# Altium footprint library PcbLib1.PcbLib: 1 footprints
Each footprint in its own frame and in the unit in brackets; x right, y up, seen from the top. Pads: shape width x height; smd on the part's side, far side on the other; paste and mask are expansions set on the pad; w line width, h text height; cw(c..) or ccw(c..) is an arc to the next point about the centre after c.
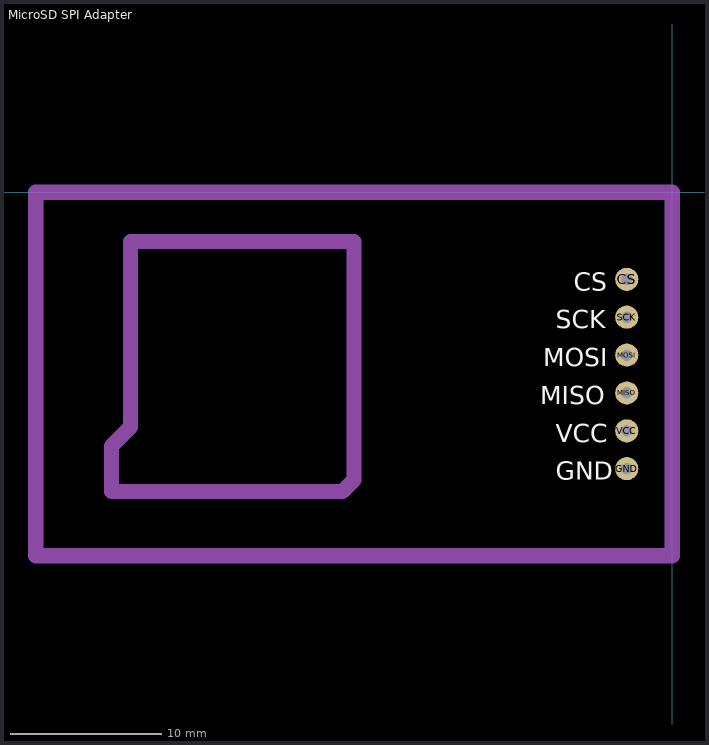
[diagram p0: the footprint, top view; thin cyan lines are the x and y axes]

## MicroSD SPI Adapter [mil]
pads (6):
  round 60 hole 30: CS(-118.11,-226.38) GND(-118.11,-718.5) MISO(-118.11,-521.65) MOSI(-118.11,-423.23) SCK(-118.11,-324.8) VCC(-118.11,-620.08)
Top Overlay:
  text "CS" at -255.77,-255.75 h47.24
  text "MOSI" at -334.49,-452.6 h47.24
  text "SCK" at -303,-354.17 h47.24
  text "MISO" at -342.36,-551.02 h47.24
  text "VCC" at -303,-649.45 h47.24
  text "GND" at -303,-747.87 h47.24
Mechanical 1:
  lines w39.37: -1348.43,-127.95 -826.77,-127.95 -826.77,-748.03 -856.3,-777.56 -1456.69,-777.56 -1456.69,-659.45 -1407.48,-610.24 -1407.48,-541.34 -1407.48,-127.95 -1309.06,-127.95 ; -1653.54,-944.88 0,-944.88 0,0 -1653.54,0 -1653.54,-944.88
3D body "Product_TF Micro SD Card Memory Modul Arduino.STEP": height 122.05, standoff -329.15, extent -1665.35,-944.88 -19.68,0